# EAGLE library part RES-H-ARRAY-4P (library Harrington-Resistors v55)
Resistor Array 4-Piece Samsung Electromechanics - Horizontal
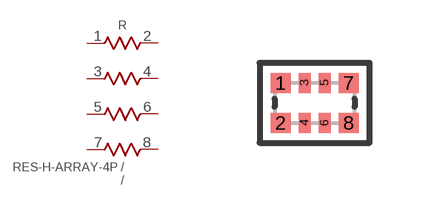
[diagram p1: symbol with the pads of 2010-4P-SEM; footprint 2010-4P-SEM]

Designator prefix R

## RES-H-ARRAY-4P-10K-2010 (POWER: 1/16W; TEMPERATURE: -55~155°C; VALUE: 4x10kΩ ± 5%; VOLTAGE: 25V)  [2010-4P-SEM]
1  1  pas
2  2  pas
3  3  pas
4  4  pas
5  5  pas
6  6  pas
7  7  pas
8  8  pas

## Footprint 2010-4P-SEM (pad centres in mm)
smd 0.5 x 0.5: 1 -0.85,0.5; 2 -0.85,-0.5; 7 0.85,0.5; 8 0.85,-0.5
smd 0.3 x 0.5: 3 -0.25,0.5; 4 -0.25,-0.5; 5 0.25,0.5; 6 0.25,-0.5